# EAGLE library part FPC-0.5-4P (library Deegou_Connector)
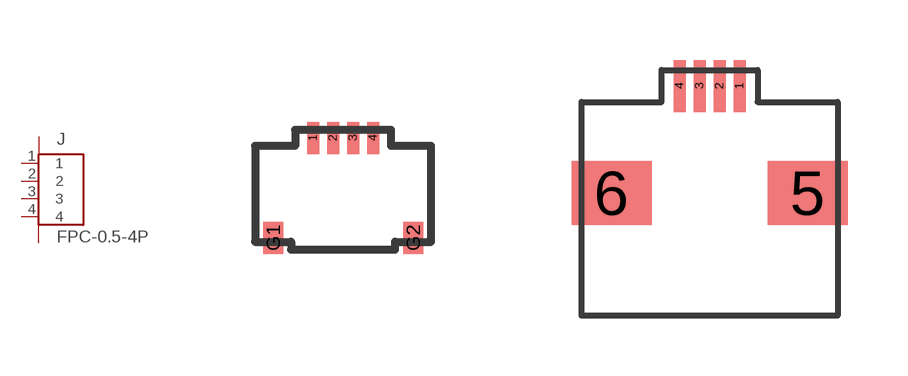
[diagram p39: symbol with the pads of FH19C-4S; footprints FH19C-4S, FPC-0.5-4P-NM]

Designator prefix J

## FPC-0.5-4P  [FH19C-4S]
1  1
2  2
3  3
4  4
G1  G1
G2  G2

## FPC-0.5-4P-NM  [FPC-0.5-4P-NM]
1  1
2  2
3  3
4  4
5  G1
6  G2

## FPC-0.5-4P-FH34SRJ  [FH34RJ-4S]
1  1
2  2
3  3
4  4
MH1  G1
MH2  G2

## Footprint FH19C-4S (pad centres in mm)
smd 0.3 x 0.8: 1 -0.75,0; 2 -0.25,0; 3 0.25,0; 4 0.75,0
smd 0.5 x 0.8: G1 -1.75,-2.5; G2 1.75,-2.5

## Footprint FPC-0.5-4P-NM (pad centres in mm)
smd 0.3 x 1.3: 1 0.75,0; 2 0.25,0; 3 -0.25,0; 4 -0.75,0
smd 2 x 1.6: 5 2.45,-2.68; 6 -2.45,-2.68

## Footprint FH34RJ-4S (pad centres in mm)
smd 0.3 x 0.8: 1 0.75,0; 2 0.25,0; 3 -0.25,0; 4 -0.75,0
smd 0.4 x 0.8: MH1 -1.75,-2.5; MH2 1.75,-2.5